# EAGLE library part MAX4896 (library TheMaker_v5)
8-Channel Relay/Load Driver *Supports Up to 50V Continuous Drain-to-Source Voltage *Guaranteed Drive Current: VS ? 4.5V 200mA (All Channels On) 410mA (Individual Channels) VS ? 3.6V 100mA *Built-In Output Clamp Protects Against Inductive Kickback *+2.7V to +5.5V Logic Supply Voltage *RESET Input Turns Off All Outputs Simultaneously *Built-in Power-On Reset *Automotive Temperature Range (-40°C to +125°C) *SPI-/QSPI-/MICROWIRE-Compatible Serial Interface *Serial Digital Output for Daisy Chaining and Diagnostics *FLAG Output for µ P Interrupt *Open-Load and Short-Circuit Detection and Protection *Thermal Shutdown *Low 100µ A (max) Quiescent Supply Current *Space-Saving, 5mm x 5mm, 20-Pin TQFN Package
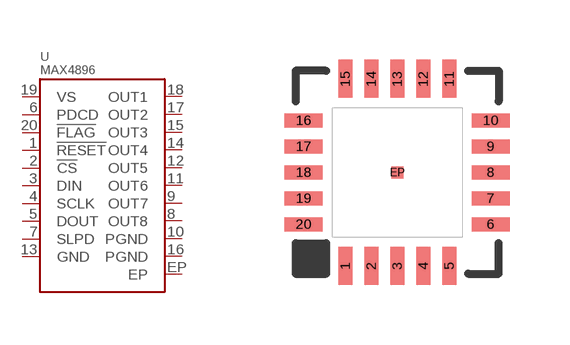
[diagram p0: symbol with the pads of TQFN20_5X5MM; footprint TQFN20_5X5MM]

Designator prefix U

## MAX4896*TP+  [TQFN20_5X5MM]
1  !RESET
2  !CS
3  DIN
4  SCLK
5  DOUT
6  PDCD
7  SLPD
8  OUT8
9  OUT7
10  PGND
11  OUT6
12  OUT5
13  GND
14  OUT4
15  OUT3
16  PGND
17  OUT2
18  OUT1
19  VS
20  !FLAG
EP  EP

## Footprint TQFN20_5X5MM (pad centres in mm)
smd 0.35 x 0.95: 1 -1.3,-2.34; 2 -0.65,-2.34; 3 0,-2.34; 4 0.65,-2.34; 5 1.3,-2.34; 11 1.3,2.34; 12 0.65,2.34; 13 0,2.34; 14 -0.65,2.34; 15 -1.3,2.34
smd 0.95 x 0.35: 6 2.34,-1.3; 7 2.34,-0.65; 8 2.34,0; 9 2.34,0.65; 10 2.34,1.3; 16 -2.34,1.3; 17 -2.34,0.65; 18 -2.34,0; 19 -2.34,-0.65; 20 -2.34,-1.3
smd 0.3 x 0.3: EP 0,0